# Altium schematic symbol library LMG5200.SchLib: 1 symbol
Pins are listed as number, name and electrical type; pins without a type are passive.

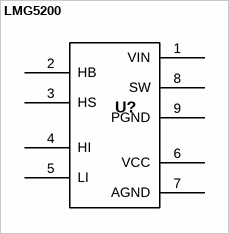
[diagram p0: symbol LMG5200]

## LMG5200
designator U?
10-A GaN Half-Bridge Power Stage QFM MOF 9 pin RoHS & Green NIAU Lead finish Level-3-260C-168 HR MSL peak temp -40 to 125 Op temp
pins: 1 VIN, 2 HB, 3 HS, 4 HI, 5 LI, 6 VCC, 7 AGND, 8 SW, 9 PGND